# Altium footprint library TSOP2-54.PcbLib: 1 footprints
Each footprint in its own frame and in the unit in brackets; x right, y up, seen from the top. Pads: shape width x height; smd on the part's side, far side on the other; paste and mask are expansions set on the pad; w line width, h text height; cw(c..) or ccw(c..) is an arc to the next point about the centre after c.
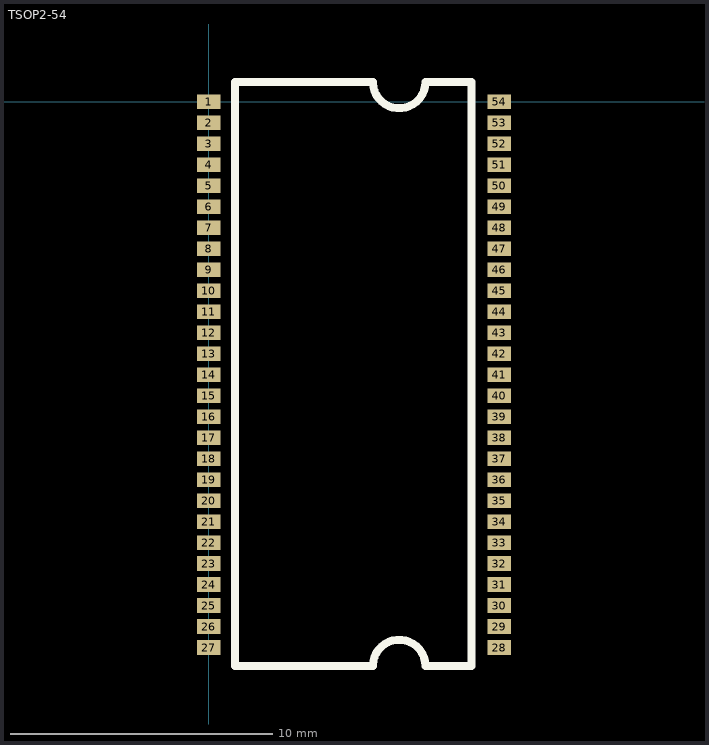
[diagram p0: the footprint, top view; thin cyan lines are the x and y axes]

## TSOP2-54 [mm]
height 2.032
pads (54):
  rect 0.9x0.56 smd: 1(0,0) 2(0,-0.8) 3(0,-1.6) 4(0,-2.4) 5(0,-3.2) 6(0,-4) 7(0,-4.8) 8(0,-5.6) 9(0,-6.4) 10(0,-7.2) 11(0,-8) 12(0,-8.8) 13(0,-9.6) 14(0,-10.4) 15(0,-11.2) 16(0,-12) 17(0,-12.8) 18(0,-13.6) 19(0,-14.4) 20(0,-15.2) 21(0,-16) 22(0,-16.8) 23(0,-17.6) 24(0,-18.4) 25(0,-19.2) 26(0,-20) 27(0,-20.8) 28(11.06,-20.8) 29(11.06,-20) 30(11.06,-19.2) 31(11.06,-18.4) 32(11.06,-17.6) 33(11.06,-16.8) 34(11.06,-16) 35(11.06,-15.2) 36(11.06,-14.4) 37(11.06,-13.6) 38(11.06,-12.8) 39(11.06,-12) 40(11.06,-11.2) 41(11.06,-10.4) 42(11.06,-9.6) 43(11.06,-8.8) 44(11.06,-8) 45(11.06,-7.2) 46(11.06,-6.4) 47(11.06,-5.6) 48(11.06,-4.8) 49(11.06,-4) 50(11.06,-3.2) 51(11.06,-2.4) 52(11.06,-1.6) 53(11.06,-0.8) 54(11.06,0)
TopOverlay:
  lines w0.305: 1,-21.5 1,0.75 6.25,0.75 ccw(c7.25,0.75) 8.25,0.75 10,0.75 10,-21.5 8.25,-21.5 ccw(c7.25,-21.5) 6.25,-21.5 1,-21.5
  text "." at 0.208,0.863 h2.03
3D body: height 1.3, standoff -0.4, extent -0.35,-21.51 11.41,0.71